# Altium integrated library W25QxxFV.IntLib: 1 symbol
Pins are listed as number, name and electrical type; pins without a type are passive.

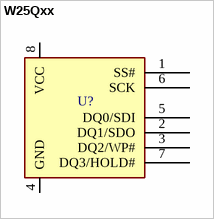
[diagram p0: symbol W25Qxx]

## W25Qxx
designator U?, comment W25Q  (value not drawn)
footprint SO_8_W
pins: 1 SS#, 2 DQ1/SDO, 3 DQ2/WP#, 4 GND, 5 DQ0/SDI, 6 SCK, 7 DQ3/HOLD#, 8 VCC